# Altium schematic symbol library LTST-C19HE1WT.SchLib: 1 symbol
Pins are listed as number, name and electrical type; pins without a type are passive.

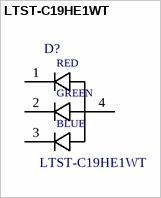
[diagram p0: symbol LTST-C19HE1WT]

## LTST-C19HE1WT
designator D?
R/G/B 0606 Flat Top Rectangle 130Â° 112.5/281/104 mcd Diffused Chip LED; MF: Lite-On Inc.; Package: 0606 Lite-On; Digi-Key_Part_Number: 160-2162-1-ND; Digi-Key_Purchase_URL: https://www.digikey.com/product-detail/en/lite-on-inc/LTST-C19HE1WT/160-2162-1-ND/4866310?utm_source=snapeda&utm_medium=aggregator&utm_campaign=symbol; MP: LTST-C19HE1WT; SnapEDA_Link: https://www.snapeda.com/parts/LTST-C19HE1WT/Lite-On%20Inc./view-part/?ref=snap; Value: *
footprint *LEDSC85P160X160X35-4N
pins: 1, 2, 3, 4
text: RED; GREEN; BLUE